# Altium schematic symbol library Relay-SPST HF49FD.Schlib: 1 symbol
Pins are listed as number, name and electrical type; pins without a type are passive.

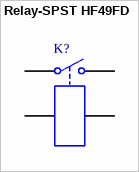
[diagram p0: symbol Relay-SPST HF49FD]

## Relay-SPST HF49FD
designator K?
pins: 1, 2, 3, 4